# Altium footprint library standard-case.PcbLib: 69 footprints (part 3 of 5)
Each footprint in its own frame and in the unit in brackets; x right, y up, seen from the top. Pads: shape width x height; smd on the part's side, far side on the other; paste and mask are expansions set on the pad; w line width, h text height; cw(c..) or ccw(c..) is an arc to the next point about the centre after c.
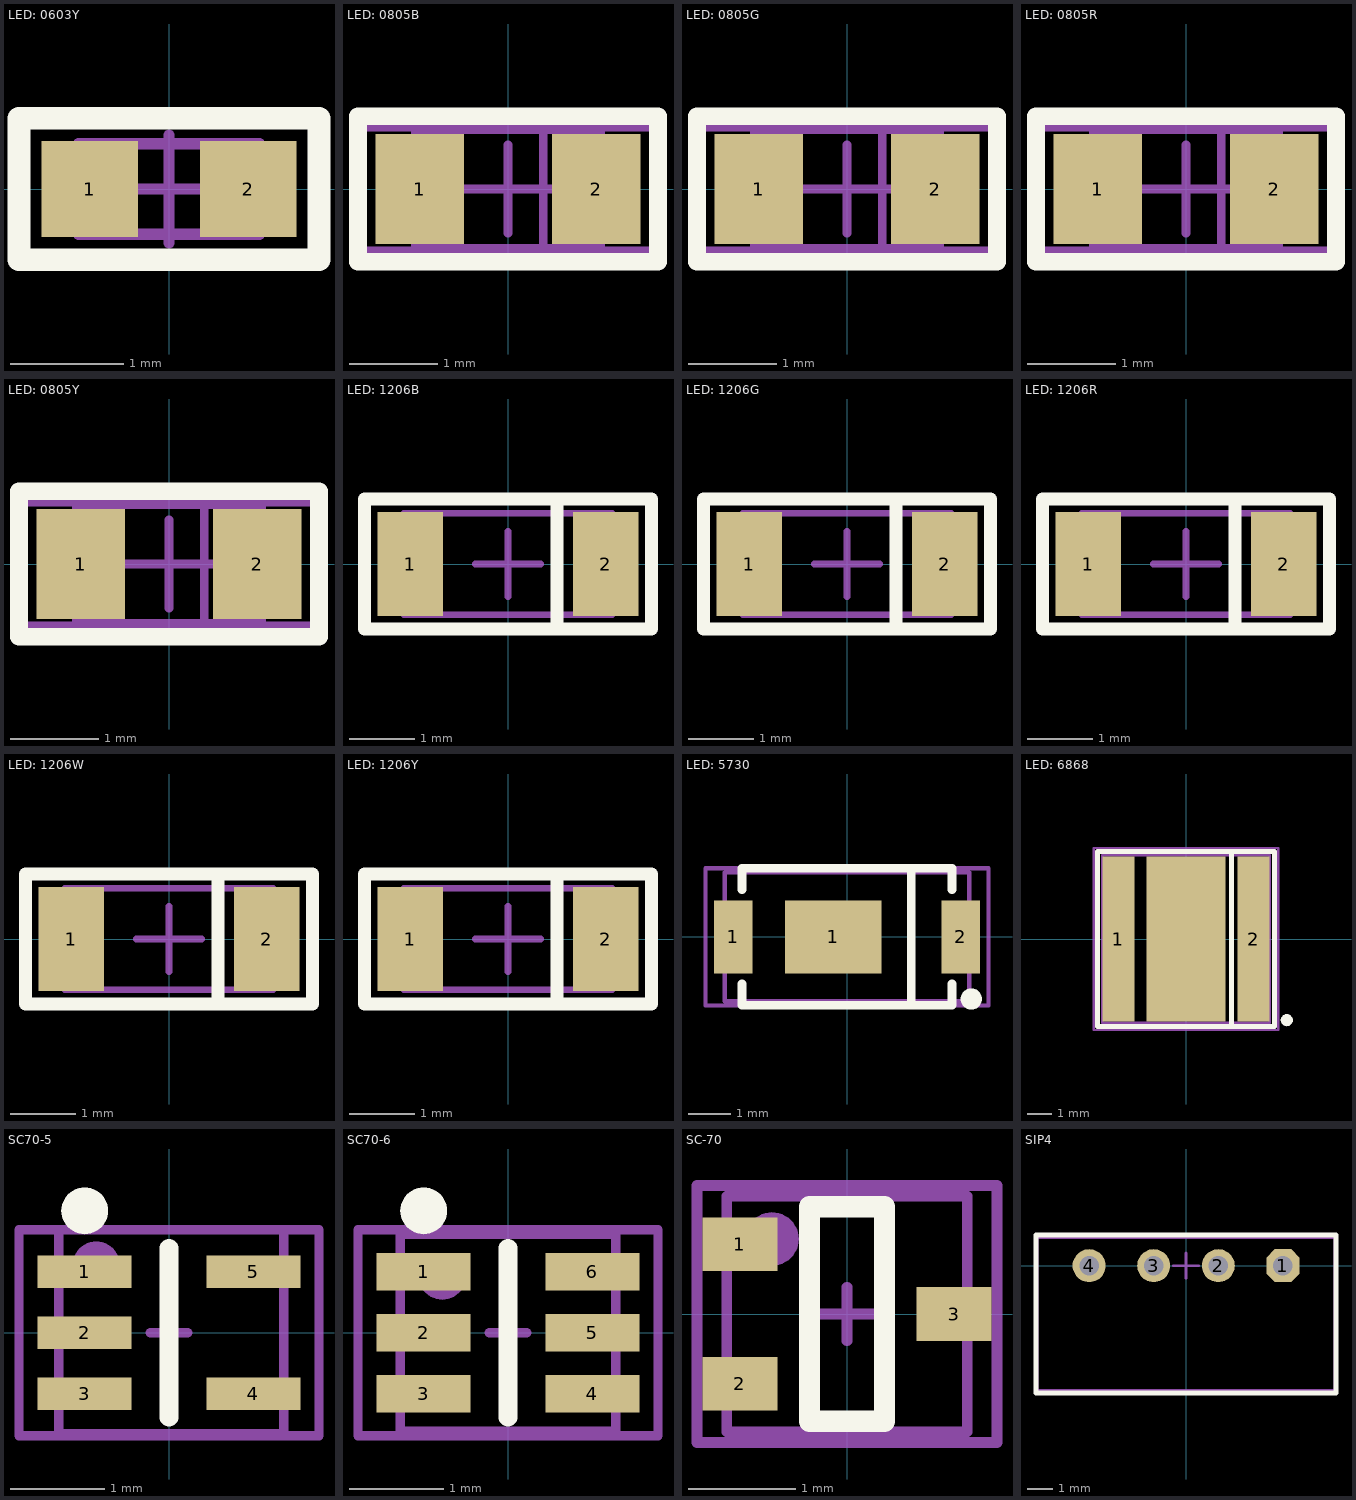
[diagram p2: the footprints below, top view; thin cyan lines are the x and y axes]

## LED: 0603Y [mm]
height 0.45
pads (2):
  rect 0.85x0.85 smd: 1(-0.7,0) 2(0.7,0)
Top Overlay:
  lines w0.2: -1.325,-0.625 1.325,-0.625 1.325,0.625 -1.325,0.625 -1.325,-0.625
Mechanical 1:
  lines w0.1: -0.8,-0.4 0.8,-0.4 0.8,0.4 -0.8,0.4 -0.8,-0.4
Mechanical 15:
  lines w0.1: -0.475,0 0.475,0 ; 0,-0.475 0,0.475 ; -1.325,-0.625 1.325,-0.625 1.325,0.6 -1.325,0.6 -1.325,-0.625
3D body "User Library-LED_0603_Y.STEP": height 0.6, standoff 0, extent -0.8,-0.4 0.8,0.4

## LED: 0805B [mm]
height 1
pads (2):
  rect 1x1.25 smd: 1(-1,0) 2(1,0)
Top Overlay:
  lines w0.2: -1.7,-0.825 -1.7,0.825 1.7,0.825 1.7,-0.825 -1.7,-0.825
Mechanical 1:
  lines w0.1: 0.4,-0.675 0.4,0.675 ; -1.05,-0.675 -1.05,0.675 1.05,0.675 1.05,-0.675 -1.05,-0.675
Mechanical 15:
  lines w0.1: -0.5,0 0.5,0 ; 0,-0.5 0,0.5 ; -1.7,-0.7 1.7,-0.7 1.7,0.7 -1.7,0.7 -1.7,-0.7
3D body "LED 0805 - BLUE.STEP": height 0.9, standoff -0.01, extent -1.05,-0.675 1.05,0.675

## LED: 0805G [mm]
height 1
pads (2):
  rect 1x1.25 smd: 1(-1,0) 2(1,0)
Top Overlay:
  lines w0.2: -1.7,-0.825 -1.7,0.825 1.7,0.825 1.7,-0.825 -1.7,-0.825
Mechanical 1:
  lines w0.1: 0.4,-0.675 0.4,0.675 ; -1.05,-0.675 -1.05,0.675 1.05,0.675 1.05,-0.675 -1.05,-0.675
Mechanical 15:
  lines w0.1: -0.5,0 0.5,0 ; 0,-0.5 0,0.5 ; -1.7,-0.7 1.7,-0.7 1.7,0.7 -1.7,0.7 -1.7,-0.7
3D body "LED 0805 - GREEN.STEP": height 0.9, standoff -0.01, extent -1.05,-0.675 1.05,0.675

## LED: 0805R [mm]
height 1
pads (2):
  rect 1x1.25 smd: 1(-1,0) 2(1,0)
Top Overlay:
  lines w0.2: -1.7,-0.825 1.7,-0.825 1.7,0.825 -1.7,0.825 -1.7,-0.825
Mechanical 1:
  lines w0.1: 0.4,-0.675 0.4,0.675 ; -1.05,-0.675 -1.05,0.675 1.05,0.675 1.05,-0.675 -1.05,-0.675
Mechanical 15:
  lines w0.1: -0.5,0 0.5,0 ; 0,-0.5 0,0.5 ; -1.7,-0.7 -1.7,0.7 1.7,0.7 1.7,-0.7 -1.7,-0.7
3D body "User Library-CHIPLED-0805.STEP": height 0.9, standoff -0.01, extent -1.05,-0.675 1.05,0.675

## LED: 0805Y [mm]
height 1
pads (2):
  rect 1x1.25 smd: 1(-1,0) 2(1,0)
Top Overlay:
  lines w0.2: -1.7,-0.825 -1.7,0.825 1.7,0.825 1.7,-0.825 -1.7,-0.825
Mechanical 1:
  lines w0.1: 0.4,-0.675 0.4,0.675 ; -1.05,-0.675 1.05,-0.675 1.05,0.675 -1.05,0.675 -1.05,-0.675
Mechanical 15:
  lines w0.1: -0.5,0 0.5,0 ; 0,-0.5 0,0.5 ; -1.7,-0.7 1.7,-0.7 1.7,0.7 -1.7,0.7 -1.7,-0.7
3D body "orange.STEP": height 0.9, standoff -0.01, extent -1.05,-0.675 1.05,0.675

## LED: 1206B [mm]
height 0.6
pads (2):
  rect 1x1.6 smd: 1(-1.5,0) 2(1.5,0)
Top Overlay:
  lines w0.2: 0.75,-1 0.75,1 ; -2.2,-1 2.2,-1 2.2,1 -2.2,1 -2.2,-1
Mechanical 1:
  lines w0.1: -1.6,-0.775 1.6,-0.775 1.6,0.775 -1.6,0.775 -1.6,-0.775
Mechanical 15:
  lines w0.1: -0.5,0 0.5,0 ; 0,-0.5 0,0.5 ; -2.2,-1 -2.2,1 2.2,1 2.2,-1 -2.2,-1
3D body "User Library-FYLS-1206.step": height 1.1, standoff 0, extent -1.6,-0.8 1.6,0.8

## LED: 1206G [mm]
height 0.6
pads (2):
  rect 1x1.6 smd: 1(-1.5,0) 2(1.5,0)
Top Overlay:
  lines w0.2: 0.75,-1 0.75,1 ; -2.2,-1 2.2,-1 2.2,1 -2.2,1 -2.2,-1
Mechanical 1:
  lines w0.1: -1.6,-0.775 1.6,-0.775 1.6,0.775 -1.6,0.775 -1.6,-0.775
Mechanical 15:
  lines w0.1: -0.5,0 0.5,0 ; 0,-0.5 0,0.5 ; -2.2,-1 -2.2,1 2.2,1 2.2,-1 -2.2,-1
3D body "User Library-FYLS-1206.step": height 1.1, standoff 0, extent -1.6,-0.8 1.6,0.8

## LED: 1206R [mm]
height 0.6
pads (2):
  rect 1x1.6 smd: 1(-1.5,0) 2(1.5,0)
Top Overlay:
  lines w0.2: 0.75,-1 0.75,1 ; -2.2,-1 2.2,-1 2.2,1 -2.2,1 -2.2,-1
Mechanical 1:
  lines w0.1: -1.6,-0.775 1.6,-0.775 1.6,0.775 -1.6,0.775 -1.6,-0.775
Mechanical 15:
  lines w0.1: -0.5,0 0.5,0 ; 0,-0.5 0,0.5 ; -2.2,-1 -2.2,1 2.2,1 2.2,-1 -2.2,-1
3D body "User Library-FYLS-1206.step": height 1.1, standoff 0, extent -1.6,-0.8 1.6,0.8

## LED: 1206W [mm]
height 0.6
pads (2):
  rect 1x1.6 smd: 1(-1.5,0) 2(1.5,0)
Top Overlay:
  lines w0.2: 0.75,-1 0.75,1 ; -2.2,-1 2.2,-1 2.2,1 -2.2,1 -2.2,-1
Mechanical 1:
  lines w0.1: -1.6,-0.775 1.6,-0.775 1.6,0.775 -1.6,0.775 -1.6,-0.775
Mechanical 15:
  lines w0.1: -0.5,0 0.5,0 ; 0,-0.5 0,0.5 ; -2.2,-1 -2.2,1 2.2,1 2.2,-1 -2.2,-1
3D body "User Library-FYLS-1206.step": height 1.1, standoff 0, extent -1.6,-0.8 1.6,0.8

## LED: 1206Y [mm]
height 0.6
pads (2):
  rect 1x1.6 smd: 1(-1.5,0) 2(1.5,0)
Top Overlay:
  lines w0.2: 0.75,-1 0.75,1 ; -2.2,-1 2.2,-1 2.2,1 -2.2,1 -2.2,-1
Mechanical 1:
  lines w0.1: -1.6,-0.775 1.6,-0.775 1.6,0.775 -1.6,0.775 -1.6,-0.775
Mechanical 15:
  lines w0.1: -0.5,0 0.5,0 ; 0,-0.5 0,0.5 ; -2.2,-1 -2.2,1 2.2,1 2.2,-1 -2.2,-1
3D body "User Library-FYLS-1206.step": height 1.1, standoff 0, extent -1.6,-0.8 1.6,0.8

## LED: 5730 [mm]
pads (4):
  rect 0.9x1.7 smd: 1(-2.65,0) 2(2.65,0)
  rect 2.25x1.7 smd: 1(-0.32,0)
  round 0.5 on Top Overlay: ""(2.9,-1.45)
Top Overlay:
  lines w0.2: -2.45,-1.1 -2.45,-1.6 0,-1.6 2.45,-1.6 2.45,-1.1 ; -2.45,1.1 -2.45,1.6 0,1.6 2.45,1.6 2.45,1.1 ; 1.5,-1.6 1.5,1.6
Mechanical 1:
  lines w0.1: -2.85,-1.5 -2.85,1.5 2.85,1.5 2.85,-1.5 -2.85,-1.5
Mechanical 15:
  lines w0.1: -0.3,0 0.3,0 ; 0,-0.3 0,0.3 ; -3.3,-1.6 3.3,-1.6 3.3,1.6 -3.3,1.6 -3.3,-1.6
3D body "LED 5730.stp": height 0.84, standoff 0.04, extent -2.85,-1.5 2.85,1.5

## LED: 6868 [mm]
pads (4):
  rect 1.3x6.7 smd: 1(-2.75,0) 2(2.75,0)
  rect 3.2x6.7 smd: ""(0,0)
  round 0.5 on Top Overlay: ""(4.1,-3.3)
Top Overlay:
  lines w0.2: 1.85,-3.55 1.85,3.5 ; -3.6,-3.55 -3.6,3.55 3.6,3.55 3.6,-3.55 -3.6,-3.55
Mechanical 1:
  lines w0.1: 1.85,-3.4 1.85,3.4 ; -3.4,-3.4 3.4,-3.4 3.4,3.4 -3.4,3.4 -3.4,-3.4
Mechanical 15:
  lines w0.1: -0.3,0 0.3,0 ; 0,-0.3 0,0.3 ; -3.75,-3.7 3.75,-3.7 3.75,3.7 -3.75,3.7 -3.75,-3.7
3D body "6666.STEP": height 1.55, standoff 0, extent -3.4,-3.4 3.4,3.4

## SC70-5 [mm] "pitch 0.95 mm"
height 1.45
pads (7):
  rect 1x0.35 smd: 1(-0.9,0.65) 2(-0.9,0) 3(-0.9,-0.65) 4(0.9,-0.65) 5(0.9,0.65)
  round 0.5 on Top Overlay: ""(-0.9,1.3)
  round 0.5 on Mech1: ""(-0.775,0.725)
Top Overlay:
  lines w0.2: 0,-0.9 0,0.9
Mechanical 1:
  lines w0.1: -1.175,-1.075 -1.175,1.1 1.225,1.1 1.225,-1.075 -1.175,-1.075
Mechanical 15:
  lines w0.1: -0.2,0 0.2,0 ; 0,-0.2 0,0.2 ; -1.6,-1.1 1.6,-1.1 1.6,1.1 -1.6,1.1 -1.6,-1.1
3D body "User Library-SC70-5-MAX.STEP": height 1.09, standoff -0.01, extent -1.175,-1.1 1.225,1.1

## SC70-6 [mm] "SOT23, 5-Leads, Body 2,90x2,80mm, Pitch 0,95mm, IPC Medium Density"
height 1.45
pads (8):
  rect 1x0.4 smd: 1(-0.9,0.65) 2(-0.9,0) 3(-0.9,-0.65) 4(0.9,-0.65) 5(0.9,0) 6(0.9,0.65)
  round 0.5 on Top Overlay: ""(-0.9,1.3)
  round 0.5 on Mech1: ""(-0.7,0.6)
Top Overlay:
  lines w0.2: 0,-0.9 0,0.9
Mechanical 1:
  lines w0.1: -1.15,-1.05 -1.15,1.05 1.15,1.05 1.15,-1.05 -1.15,-1.05
Mechanical 15:
  lines w0.1: -0.2,0 0.2,0 ; 0,-0.2 0,0.2 ; -1.6,-1.1 1.6,-1.1 1.6,1.1 -1.6,1.1 -1.6,-1.1
3D body "User Library-sot363.STEP": height 1, standoff 0, extent -1.15,-1.05 1.15,1.05

## SC-70 [mm]
pads (4):
  rect 0.7x0.5 smd: 1(-1,0.65) 2(-1,-0.65) 3(1,0)
  round 0.5 on Mech1: ""(-0.7,0.7)
Top Overlay:
  lines w0.2: -0.35,-1 -0.35,1 0.35,1 0.35,-1 -0.35,-1
Mechanical 1:
  lines w0.1: -1.123,-1.1 -1.123,1.1 1.123,1.1 1.123,-1.1 -1.123,-1.1
Mechanical 15:
  lines w0.1: -0.25,0 0.25,0 ; 0,-0.25 0,0.25 ; -1.4,-1.2 1.4,-1.2 1.4,1.2 -1.4,1.2 -1.4,-1.2
3D body "User Library-SOT323 (SC70-3)-1.STEP": height 1.1, standoff 0, extent -1.123,-1.1 1.123,1.1

## SIP4 [mm]
height 15
pads (4):
  oct 1.3x1.3 hole 0.762: 1(3.81,0)
  round 1.3 hole 0.762: 2(1.27,0) 3(-1.27,0) 4(-3.81,0)
Top Overlay:
  lines w0.2: -5.9,-5 5.9,-5 5.9,1.2 -5.9,1.2 -5.9,-5
Mechanical 1:
  lines w0.1: -5.842,-4.9 5.842,-4.9 5.842,1.1 -5.842,1.1 -5.842,-4.9
Mechanical 15:
  lines w0.1: -0.5,0 0.5,0 ; 0,-0.5 0,0.5 ; -5.9,-5 -5.9,1.2 5.9,1.2 5.9,-5 -5.9,-5
3D body "P6AU.STEP": height 10, standoff -3, extent -5.84,-4.905 5.84,1.095